# Altium schematic symbol library Schlib1.SchLib: 5 symbols
Pins are listed as number, name and electrical type; pins without a type are passive.

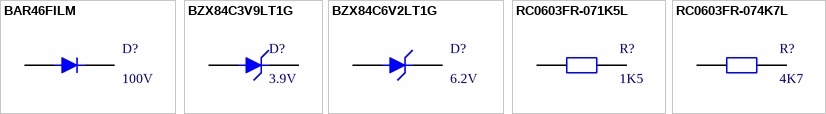
[diagram p0: symbols BAR46FILM to RC0603FR-074K7L]

## BAR46FILM
designator D?, comment 100V
DIODE SCHOTTKY 100V 150MA SOT23; Manufacturer: STMicroelectronics; Manufacturer Part Number: BAR46FILM; Current - Average Rectified (Io): 150mA (DC); Voltage - Forward (Vf) (Max) @ If: 1V @ 250mA; Speed: Small Signal =< 200mA (Io), Any Speed; Current - Reverse Leakage @ Vr: 5µA @ 75V; Capacitance @ Vr, F: 10pF @ 0V, 1MHz; Supplier 1: Digi-Key; RoHS: RoHS Compliant; Category: Discrete Semiconductor Products; Stock 1: 2235; Pricing 1: 1=0.51, 10=0.296, 100=0.1274, 1000=0.09727 (AUD); Packaging: Digi-Reel®; Diode Type: Schottky; Voltage - DC Reverse (Vr) (Max): 100V; Reverse Recovery Time (trr): -; Mounting Type: Surface Mount; Package / Case: TO-236-3, SC-59, SOT-23-3; Supplier Device Package: SOT-23; Operating Temperature - Junction: 150°C (Max); ComponentLink1URL: http://www.st.com/web/en/resource/technical/document/datasheet/CD00000669.pdf; ComponentLink1Description: http://www.st.com/web/en/resource/technical/document/datasheet/CD00000669.pdf; Supplier Part Number 1: 497-12128-6-ND
pins: 1, 3

## BZX84C3V9LT1G
designator D?, comment 3.9V
DIODE ZENER 3.9V 225MW SOT23-3; Manufacturer: ON Semiconductor; Manufacturer Part Number: BZX84C3V9LT1G; Tolerance: ±5%; Impedance (Max) (Zzt): 90 Ohm; Current - Reverse Leakage @ Vr: 3µA @ 1V; Voltage - Forward (Vf) (Max) @ If: 900mV @ 10mA; Supplier 1: Digi-Key; RoHS: RoHS Compliant; Category: Discrete Semiconductor Products; Stock 1: 20137; Pricing 1: 1=0.21, 10=0.188, 25=0.1708, 100=0.1232, 250=0.07256, 500=0.0602, 1000=0.04106 (AUD); Packaging: Cut Tape (CT); Voltage - Zener (Nom) (Vz): 3.9V; Power - Max: 225mW; Operating Temperature: -; Mounting Type: Surface Mount; Package / Case: TO-236-3, SC-59, SOT-23-3; Supplier Device Package: SOT-23-3 (TO-236); ComponentLink1URL: http://www.onsemi.com/pub_link/Collateral/BZX84C2V4LT1-D.PDF; ComponentLink1Description: http://www.onsemi.com/pub_link/Collateral/BZX84C2V4LT1-D.PDF; Supplier Part Number 1: BZX84C3V9LT1GOSCT-ND
pins: 1, 3

## BZX84C6V2LT1G
designator D?, comment 6.2V
DIODE ZENER 6.2V 225MW SOT23-3; Manufacturer: ON Semiconductor; Manufacturer Part Number: BZX84C6V2LT1G; Tolerance: ±6%; Impedance (Max) (Zzt): 10 Ohm; Current - Reverse Leakage @ Vr: 3µA @ 4V; Voltage - Forward (Vf) (Max) @ If: 900mV @ 10mA; Supplier 1: Digi-Key; RoHS: RoHS Compliant; Category: Discrete Semiconductor Products; Stock 1: 23496; Pricing 1: 1=0.21, 10=0.188, 25=0.1708, 100=0.1232, 250=0.07256, 500=0.0602, 1000=0.04106 (AUD); Packaging: Cut Tape (CT); Voltage - Zener (Nom) (Vz): 6.2V; Power - Max: 225mW; Operating Temperature: -; Mounting Type: Surface Mount; Package / Case: TO-236-3, SC-59, SOT-23-3; Supplier Device Package: SOT-23-3 (TO-236); ComponentLink1URL: http://www.onsemi.com/pub_link/Collateral/BZX84C2V4LT1-D.PDF; ComponentLink1Description: http://www.onsemi.com/pub_link/Collateral/BZX84C2V4LT1-D.PDF; Supplier Part Number 1: BZX84C6V2LT1GOSCT-ND
pins: 1, 3

## RC0603FR-071K5L
designator R?, comment 1K5
RES SMD 1.5K OHM 1% 1/10W 0603; Manufacturer: Yageo; Manufacturer Part Number: RC0603FR-071K5L; Power (Watts): 0.1W, 1/10W; Temperature Coefficient: ±100ppm/°C; Supplier 1: Digi-Key; RoHS: RoHS Compliant; Category: Resistors; Stock 1: 1083027; Pricing 1: 1=0.15, 10=0.021, 25=0.0148, 100=0.0084, 250=0.0064, 500=0.0051, 1000=0.00377, 2500=0.00327 (AUD); Packaging: Cut Tape (CT); Resistance (Ohms): 1.5k; Tolerance: ±1%; Composition: Thick Film; Features: Moisture Resistant; Operating Temperature: -55°C ~ 155°C; Package / Case: 0603 (1608 Metric); Supplier Device Package: 0603; Size / Dimension: 0.063" L x 0.031" W (1.60mm x 0.80mm); Height: 0.022" (0.55mm); Number of Terminations: 2; ComponentLink1URL: http://www.yageo.com/NewPortal/yageodocoutput?fileName=/pdf/R-Chip/PYu-RC_Group_51_RoHS_L_3.pdf; ComponentLink1Description: http://www.yageo.com/NewPortal/yageodocoutput?fileName=/pdf/R-Chip/PYu-RC_Group_51_RoHS_L_3.pdf; Supplier Part Number 1: 311-1.50KHRCT-ND
pins: 1, 2

## RC0603FR-074K7L
designator R?, comment 4K7
RES SMD 4.7K OHM 1% 1/10W 0603; Manufacturer: Yageo; Manufacturer Part Number: RC0603FR-074K7L; Power (Watts): 0.1W, 1/10W; Temperature Coefficient: ±100ppm/°C; Supplier 1: Digi-Key; RoHS: RoHS Compliant; Category: Resistors; Stock 1: 3770438; Pricing 1: 1=0.15, 10=0.021, 25=0.0148, 100=0.0084, 250=0.0064, 500=0.0051, 1000=0.00377, 2500=0.00327 (AUD); Packaging: Cut Tape (CT); Resistance (Ohms): 4.7k; Tolerance: ±1%; Composition: Thick Film; Features: Moisture Resistant; Operating Temperature: -55°C ~ 155°C; Package / Case: 0603 (1608 Metric); Supplier Device Package: 0603; Size / Dimension: 0.063" L x 0.031" W (1.60mm x 0.80mm); Height: 0.022" (0.55mm); Number of Terminations: 2; ComponentLink1URL: http://www.yageo.com/NewPortal/yageodocoutput?fileName=/pdf/R-Chip/PYu-RC_Group_51_RoHS_L_3.pdf; ComponentLink1Description: http://www.yageo.com/NewPortal/yageodocoutput?fileName=/pdf/R-Chip/PYu-RC_Group_51_RoHS_L_3.pdf; Supplier Part Number 1: 311-4.70KHRCT-ND
pins: 1, 2